# Altium footprint library Crystals Crystals.PcbLib: 4 footprints
Each footprint in its own frame and in the unit in brackets; x right, y up, seen from the top. Pads: shape width x height; smd on the part's side, far side on the other; paste and mask are expansions set on the pad; w line width, h text height; cw(c..) or ccw(c..) is an arc to the next point about the centre after c.
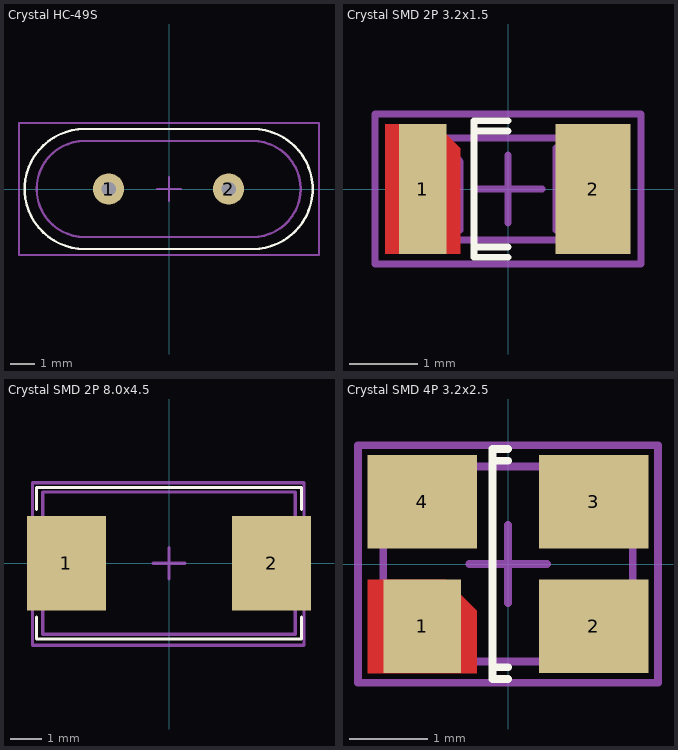
[diagram p0: the footprints below, top view; thin cyan lines are the x and y axes]

## Crystal HC-49S [mm]
height 3.5
pads (2):
  round 1.3 hole 0.6: 1(-2.515,0) 2(2.485,0)
Top Overlay:
  lines w0.1: -3.515,-2.5 cw(c-3.515,0) -3.515,2.5 3.485,2.5 cw(c3.485,0) 3.485,-2.5 -3.515,-2.5
Top Package:
  circle w0.1: c2.5,0 r0.5
  circle w0.1: c-2.5,0 r0.5
  lines w0.1: -3.515,-2 cw(c-3.515,0) -3.515,2 3.485,2 cw(c3.485,0) 3.485,-2 -3.515,-2
Top Comment:
  text ".Comment" at -4.5,-5 h3
Top Designator:
  text ".Designator" at -3,3 h3
Top Border:
  lines w0.1: -0.5,0 0.5,0 ; 0,-0.5 0,0.5 ; -6.25,-2.75 6.25,-2.75 6.25,2.75 -6.25,2.75 -6.25,-2.75
3D body "HC49S.STEP": height 3.8, standoff -2.8, extent -5.465,-2.205 5.515,2.286

## Crystal SMD 2P 3.2x1.5 [mm] "Crystals 3.2x1.5x0.9mm"
height 0.9
pads (2):
  rect 0.7x1.9 smd: 1(-1.25,0)
  rect 1.1x1.9 smd: 2(1.25,0)
Top Layer:
  region: -1.8,-0.95 -1.8,0.95 -1.05,0.95 -0.7,0.6 -0.7,-0.95
Top Overlay:
  lines w0.1: -0.5,-0.85 0,-0.85 ; -0.5,0.85 0,0.85 ; 0,-1 -0.5,-1 -0.5,1 0,1
Top Package:
  lines w0.1: -1.6,-0.6 -0.7,-0.6 -0.7,0.4 -0.9,0.6 -1.6,0.6 ; 1.6,-0.6 0.7,-0.6 0.7,0.6 1.6,0.6 ; -1.6,-0.65 -1.6,0.65 -1.5,0.75 1.5,0.75 1.6,0.65 1.6,-0.65 1.5,-0.75 -1.5,-0.75 -1.6,-0.65
Top Border:
  lines w0.1: -0.498,-0.001 0.502,-0.001 ; 0.002,-0.501 0.002,0.499 ; -1.95,-1.1 -1.95,1.1 1.95,1.1 1.95,-1.1 -1.95,-1.1
3D body "FX135.step": height 0.8, standoff 0, extent -1.6,-0.75 1.6,0.75

## Crystal SMD 2P 8.0x4.5 [mm]
height 1.6
pads (2):
  rect 2.5x3 smd: 1(-3.25,0) 2(3.25,0)
Top Overlay:
  lines w0.1: -4.2,-1.7 -4.2,-2.4 4.2,-2.4 4.2,-1.7 ; -4.2,1.7 -4.2,2.4 4.2,2.4 4.2,1.7
Top Package:
  lines w0.1: -4,-2.25 -4,2.25 4,2.25 4,-2.25 -4,-2.25
Top Border:
  lines w0.1: -0.498,-0.001 0.502,-0.001 ; 0.002,-0.501 0.002,0.499 ; -4.325,-2.6 4.275,-2.6 4.275,2.55 -4.325,2.55 -4.325,-2.6
3D body "Crystal ABM2.STEP": height 1.4, standoff 0, extent -4,-2.25 4,2.25

## Crystal SMD 4P 3.2x2.5 [mm] "Crystals 3.2x2.5x0.7mm"
height 0.7
pads (4):
  rect 1x1.2 smd: 1(-1.1,-0.8)
  rect 1.4x1.2 smd: 2(1.1,-0.8) 3(1.1,0.8) 4(-1.1,0.8)
Top Layer:
  region: -1.8,-1.4 -0.4,-1.4 -0.4,-0.6 -0.8,-0.2 -1.8,-0.2
Top Overlay:
  lines w0.1: -0.2,-1.325 0,-1.325 ; -0.2,1.325 0,1.325 ; 0,-1.475 -0.2,-1.475 -0.2,1.475 0,1.475
Top Package:
  lines w0.1: -1.6,-0.45 -0.975,-0.45 -0.7,-0.725 -0.7,-1.25 ; -1.6,0.45 -0.7,0.45 -0.7,1.25 ; 0.7,-1.25 0.7,-0.45 1.6,-0.45 ; 0.7,1.25 0.7,0.45 1.6,0.45 ; -1.6,-1.15 -1.5,-1.25 1.5,-1.25 1.6,-1.15 1.6,1.15 1.5,1.25 -1.5,1.25 -1.6,1.15 -1.6,-1.15
Top Border:
  lines w0.1: -0.498,-0.001 0.502,-0.001 ; 0.002,-0.501 0.002,0.499 ; -1.925,-1.525 1.925,-1.525 1.925,1.525 -1.925,1.525 -1.925,-1.525
3D body "FA-238.step": height 0.61, standoff 0, extent -1.6,-1.25 1.6,1.25